# Altium footprint library PHOENIX_1757268.PcbLib: 1 footprints
Each footprint in its own frame and in the unit in brackets; x right, y up, seen from the top. Pads: shape width x height; smd on the part's side, far side on the other; paste and mask are expansions set on the pad; w line width, h text height; cw(c..) or ccw(c..) is an arc to the next point about the centre after c.
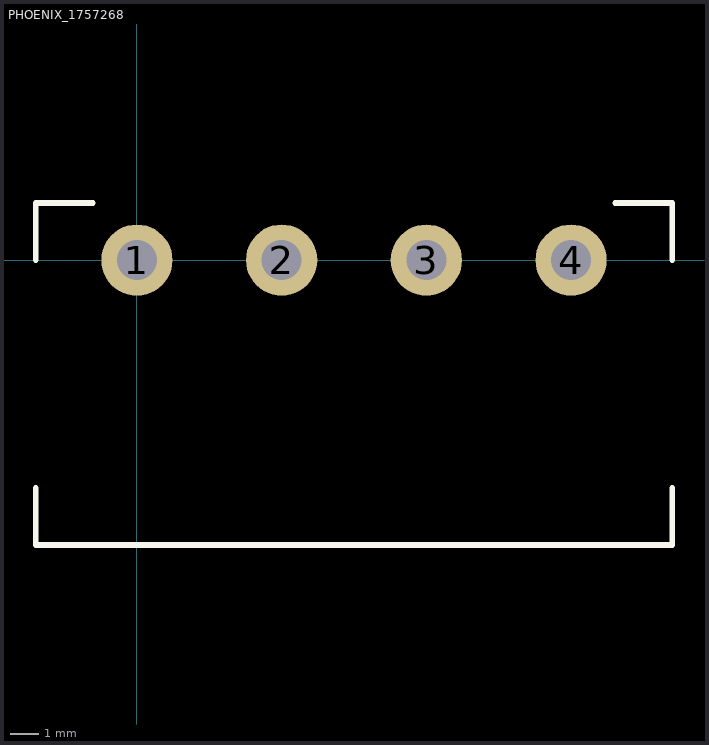
[diagram p0: the footprint, top view; thin cyan lines are the x and y axes]

## PHOENIX_1757268 [mm]
pads (4):
  round 2.5 hole 1.4: 1(0,0) 2(5.08,0) 3(10.16,0) 4(15.24,0)
Top Overlay:
  lines w0.2: -3.55,-8 -3.55,-10 18.79,-10 18.79,-8 ; -3.55,0 -3.55,2 -1.55,2 ; 16.79,2 18.79,2 18.79,0
3D body "PHOENIX_1757268.stp": height 8.6, standoff -3.5, extent -3.55,-10 18.77,2.002